# Altium schematic symbol library Touch.SchLib: 1 symbol
Pins are listed as number, name and electrical type; pins without a type are passive.

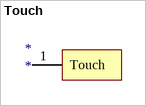
[diagram p0: symbol Touch]

## Touch
designator *
footprint TOUCH
pins: 1 Touch